# EAGLE library part PLD-14 (library gost_con_pls-pld-pbs-pbd)
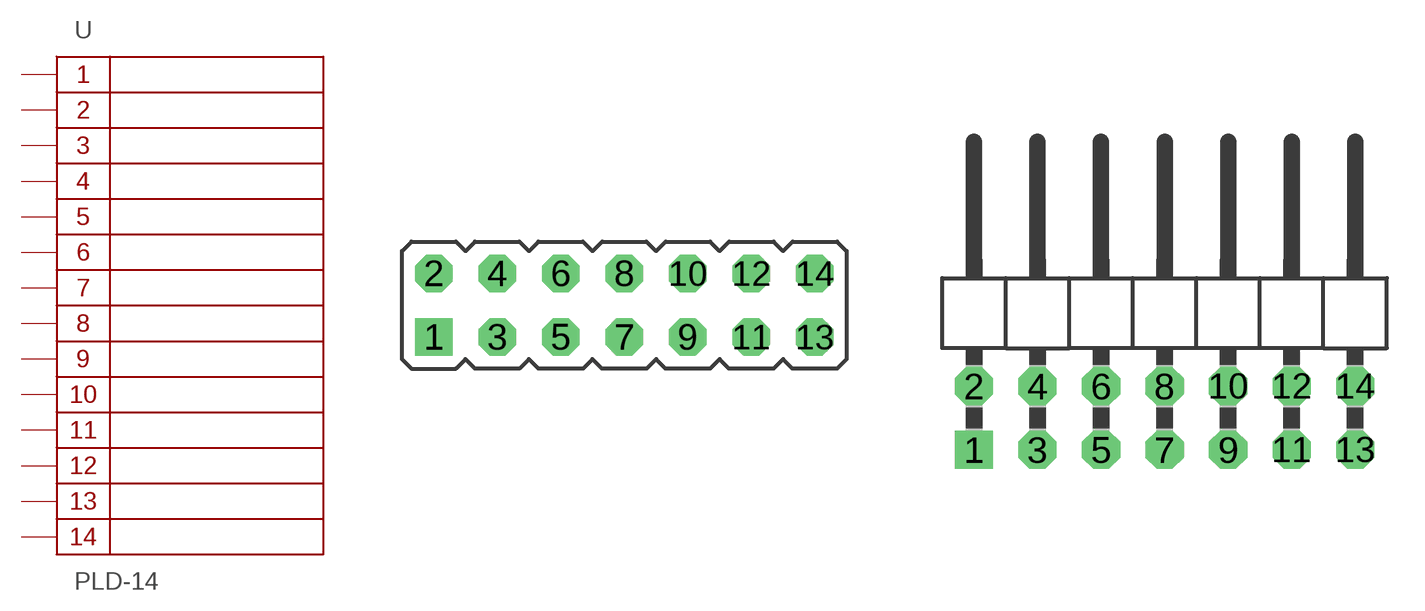
[diagram p1: symbol with the pads of PLD-14; footprints PLD-14, PLD-14R]

Designator prefix -

## PLD-14  [PLD-14]
1  1
2  2
3  3
4  4
5  5
6  6
7  7
8  8
9  9
10  10
11  11
12  12
13  13
14  14

## PLD-14R  [PLD-14R]
Pads as for PLD-14

## Footprint PLD-14 (pad centres in mm)
drill 0.9 pad 1.5 square: 1 -2.54,-1.27
drill 0.9 pad 1.5 octagon: 2 -2.54,1.27; 3 0,-1.27; 4 0,1.27; 5 2.54,-1.27; 6 2.54,1.27; 7 5.08,-1.27; 8 5.08,1.27; 9 7.62,-1.27; 10 7.62,1.27; 11 10.16,-1.27; 12 10.16,1.27; 13 12.7,-1.27; 14 12.7,1.27

## Footprint PLD-14R (pad centres in mm)
drill 1.016 square: 1 -7.62,-1.27
drill 1.016 octagon: 2 -7.62,1.27; 3 -5.08,-1.27; 4 -5.08,1.27; 5 -2.54,-1.27; 6 -2.54,1.27; 7 0,-1.27; 8 0,1.27; 9 2.54,-1.27; 10 2.54,1.27; 11 5.08,-1.27; 12 5.08,1.27; 13 7.62,-1.27; 14 7.62,1.27